# EAGLE library part JTAG_TI_ (library Connector)
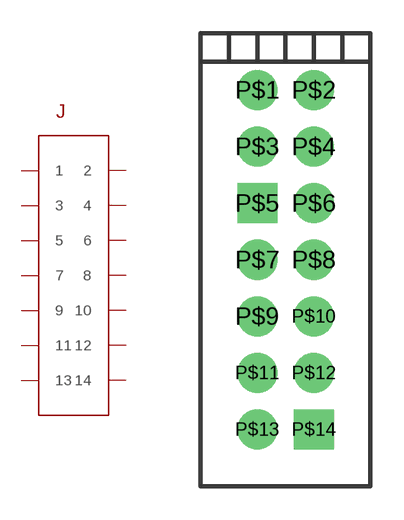
[diagram p1: symbol with the pads of JTAG; footprint JTAG]

Designator prefix J

## JTAG_TI_20PIN  [JTAG]
P$1  1
P$2  2
P$3  3
P$4  4
P$5  5
P$6  6
P$7  7
P$8  8
P$9  9
P$10  10
P$11  11
P$12  12
P$13  13
P$14  14

## Footprint JTAG (pad centres in mm)
drill 1.2: P$1 -1.27,7.62; P$2 1.27,7.62; P$3 -1.27,5.08; P$4 1.27,5.08; P$6 1.27,2.54; P$7 -1.27,0; P$8 1.27,0; P$9 -1.27,-2.54; P$10 1.27,-2.54; P$11 -1.27,-5.08; P$12 1.27,-5.08; P$13 -1.27,-7.62
drill 1.2 square: P$5 -1.27,2.54; P$14 1.27,-7.62